# EAGLE library part LM723CN (library ST_Microelctronics_By_element14_Batch_1)
High precision voltage regulator
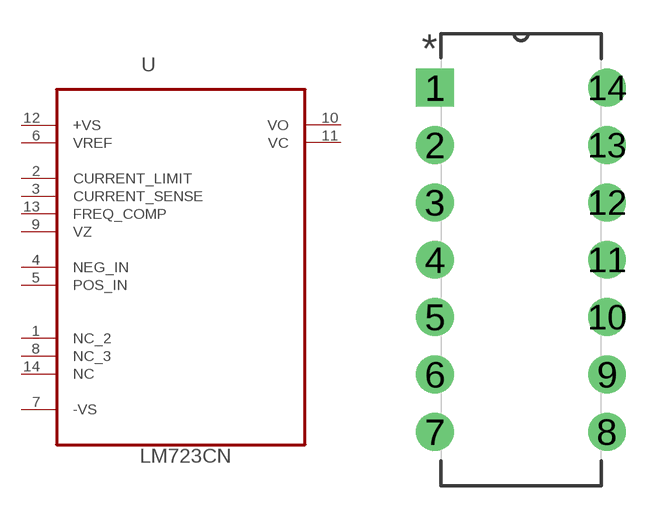
[diagram p122: symbol with the pads of DIP254P762X510-14; footprint DIP254P762X510-14]

Designator prefix U

## LM723CN (MPN: LM723CN; OC_FARNELL: 1077176; OC_NEWARK: 89K0715; PACKAGE: DIP-28; SUPPLIER: STMICROELECTRONICS)  [DIP254P762X510-14]
1  NC_2  nc
2  CURRENT_LIMIT  pas
3  CURRENT_SENSE  in
4  NEG_IN  in
5  POS_IN  in
6  VREF  in
7  -VS  pwr
8  NC_3  nc
9  VZ  pas
10  VO  out
11  VC  out
12  +VS  pwr
13  FREQ_COMP  in
14  NC  nc

## Footprint DIP254P762X510-14 (pad centres in mm)
drill 1.118 square: 1 -7.62,15.24
drill 1.118: 2 -7.62,12.7; 3 -7.62,10.16; 4 -7.62,7.62; 5 -7.62,5.08; 6 -7.62,2.54; 7 -7.62,0; 8 0,0; 9 0,2.54; 10 0,5.08; 11 0,7.62; 12 0,10.16; 13 0,12.7; 14 0,15.24